# EAGLE library part AAT1217 (library custom)
Positive Boost Converter Regulator Adjustable 2.5-5.5V Output 0.5-5.5V Input 500mA
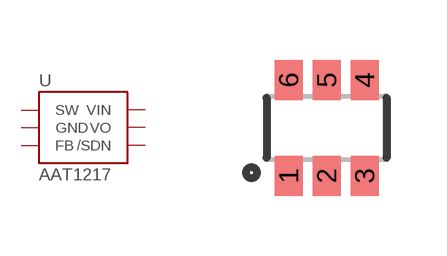
[diagram p100: symbol with the pads of SOT23-6; footprint SOT23-6]

Designator prefix U

## AAT1217  [SOT23-6]
1  SW
2  GND
3  FB
4  /SDN
5  VO
6  VIN

## Footprint SOT23-6 (pad centres in mm)
smd 0.7 x 1: 1 -0.95,-1.2; 2 0,-1.2; 3 0.95,-1.2; 4 0.95,1.2; 5 0,1.2; 6 -0.95,1.2